# Altium schematic symbol library Schlib1_GuJun.SchLib: 15 symbols
Pins are listed as number, name and electrical type; pins without a type are passive.

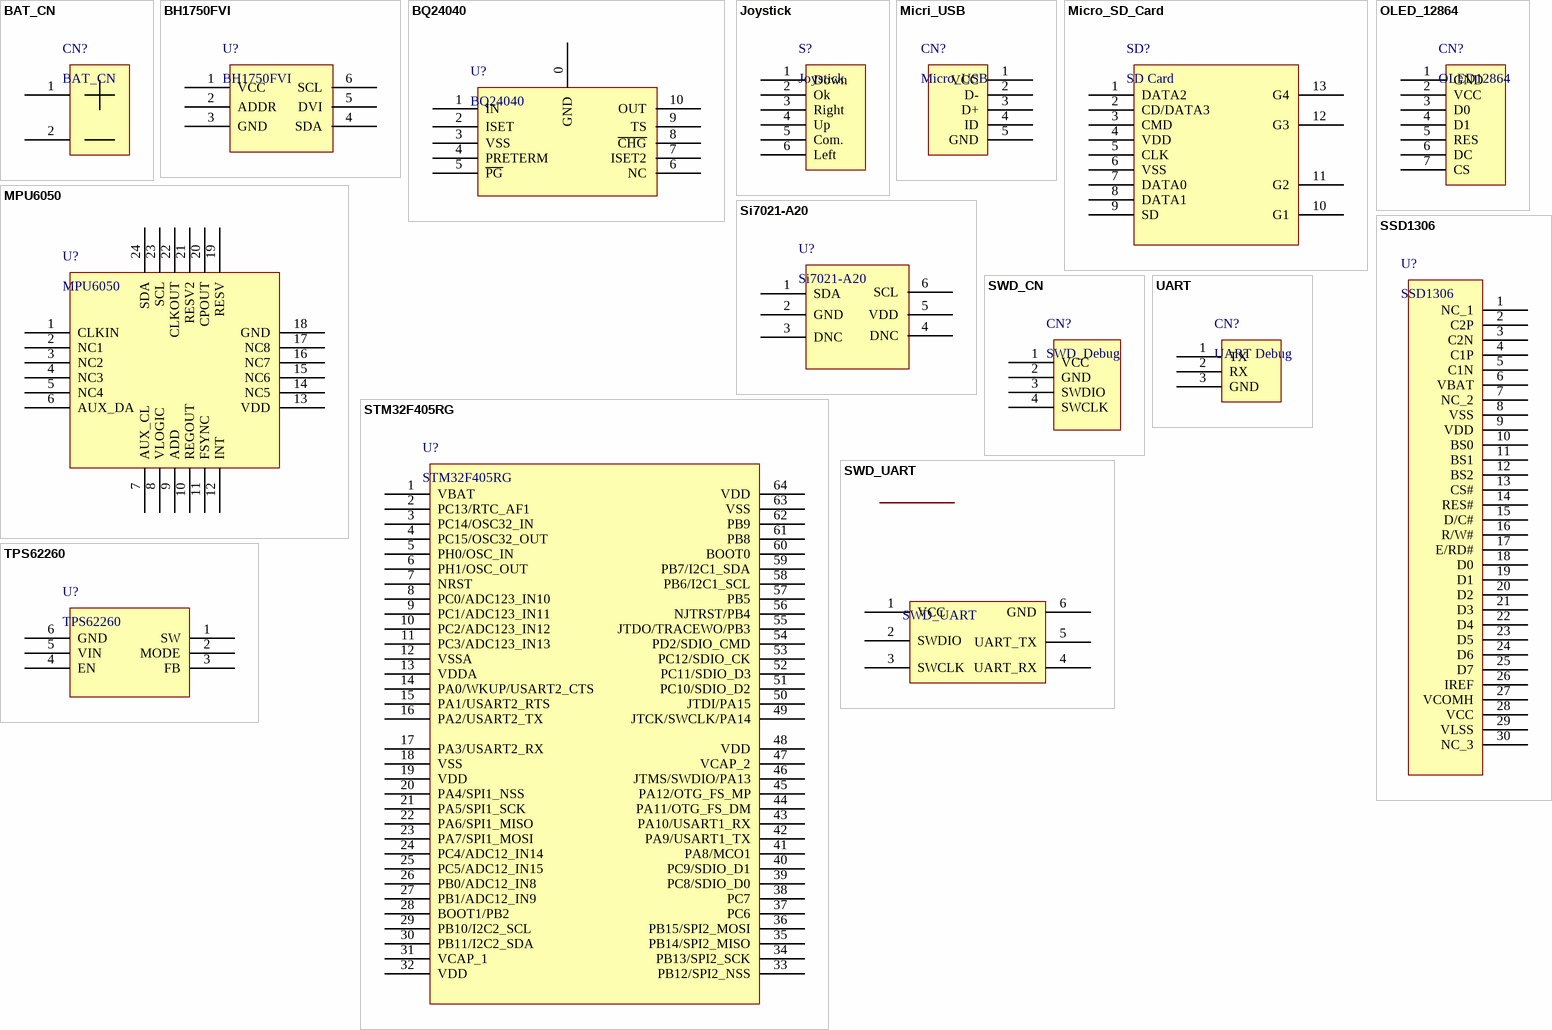
[diagram p0: symbols BAT_CN to UART]

## BAT_CN
designator CN?
pins: 1 +, 2 -

## BH1750FVI
designator U?
pins: 1 VCC, 2 ADDR, 3 GND, 4 SDA, 5 DVI, 6 SCL

## BQ24040
designator U?
pins: 0 GND, 1 IN, 2 ISET, 3 VSS, 4 PRETERM, 5 ~{PG}, 6 NC, 7 ISET2, 8 ~{CHG}, 9 TS, 10 OUT

## Joystick
designator S?
pins: 1 Down, 2 Ok, 3 Right, 4 Up, 5 Com., 6 Left

## Micri_USB
designator CN?, comment Micro_USB
pins: 1 VCC, 2 D-, 3 D+, 4 ID, 5 GND

## Micro_SD_Card
designator SD?, comment SD Card
SD card socket
pins: 1 DATA2, 2 CD/DATA3, 3 CMD, 4 VDD, 5 CLK, 6 VSS, 7 DATA0, 8 DATA1, 9 SD, 10 G1, 11 G2, 12 G3, 13 G4

## MPU6050
designator U?
pins: 1 CLKIN, 2 NC1, 3 NC2, 4 NC3, 5 NC4, 6 AUX_DA, 7 AUX_CL, 8 VLOGIC, 9 ADD, 10 REGOUT, 11 FSYNC, 12 INT, 13 VDD, 14 NC5, 15 NC6, 16 NC7, 17 NC8, 18 GND, 19 RESV, 20 CPOUT, 21 RESV2, 22 CLKOUT, 23 SCL, 24 SDA

## OLED_12864
designator CN?, comment OLED12864
pins: 1 GND, 2 VCC, 3 D0, 4 D1, 5 RES, 6 DC, 7 CS

## Si7021-A20
designator U?
pins: 1 SDA, 2 GND, 3 DNC, 4 DNC, 5 VDD, 6 SCL

## SSD1306
designator U?
pins: 1 NC_1, 2 C2P, 3 C2N, 4 C1P, 5 C1N, 6 VBAT, 7 NC_2, 8 VSS, 9 VDD, 10 BS0, 11 BS1, 12 BS2, 13 CS#, 14 RES#, 15 D/C#, 16 R/W#, 17 E/RD#, 18 D0, 19 D1, 20 D2, 21 D3, 22 D4, 23 D5, 24 D6, 25 D7, 26 IREF, 27 VCOMH, 28 VCC, 29 VLSS, 30 NC_3

## STM32F405RG
designator U?
pins: 1 VBAT, 2 PC13/RTC_AF1, 3 PC14/OSC32_IN, 4 PC15/OSC32_OUT, 5 PH0/OSC_IN, 6 PH1/OSC_OUT, 7 NRST, 8 PC0/ADC123_IN10, 9 PC1/ADC123_IN11, 10 PC2/ADC123_IN12, 11 PC3/ADC123_IN13, 12 VSSA, 13 VDDA, 14 PA0/WKUP/USART2_CTS, 15 PA1/USART2_RTS, 16 PA2/USART2_TX, 17 PA3/USART2_RX, 18 VSS, 19 VDD, 20 PA4/SPI1_NSS, 21 PA5/SPI1_SCK, 22 PA6/SPI1_MISO, 23 PA7/SPI1_MOSI, 24 PC4/ADC12_IN14, 25 PC5/ADC12_IN15, 26 PB0/ADC12_IN8, 27 PB1/ADC12_IN9, 28 BOOT1/PB2, 29 PB10/I2C2_SCL, 30 PB11/I2C2_SDA, 31 VCAP_1, 32 VDD, 33 PB12/SPI2_NSS, 34 PB13/SPI2_SCK, 35 PB14/SPI2_MISO, 36 PB15/SPI2_MOSI, 37 PC6, 38 PC7, 39 PC8/SDIO_D0, 40 PC9/SDIO_D1, 41 PA8/MCO1, 42 PA9/USART1_TX, 43 PA10/USART1_RX, 44 PA11/OTG_FS_DM, 45 PA12/OTG_FS_MP, 46 JTMS/SWDIO/PA13, 47 VCAP_2, 48 VDD, 49 JTCK/SWCLK/PA14, 50 JTDI/PA15, 51 PC10/SDIO_D2, 52 PC11/SDIO_D3, 53 PC12/SDIO_CK, 54 PD2/SDIO_CMD, 55 JTDO/TRACEWO/PB3, 56 NJTRST/PB4, 57 PB5, 58 PB6/I2C1_SCL, 59 PB7/I2C1_SDA, 60 BOOT0, 61 PB8, 62 PB9, 63 VSS, 64 VDD

## SWD_CN
designator CN?, comment SWD_Debug
SWD debug connector
pins: 1 VCC, 2 GND, 3 SWDIO, 4 SWCLK

## SWD_UART
designator SWD_UART
pins: 1 VCC, 2 SWDIO, 3 SWCLK, 4 UART_RX, 5 UART_TX, 6 GND

## TPS62260
designator U?
DC-DC buck
pins: 1 SW, 2 MODE, 3 FB, 4 EN, 5 VIN, 6 GND

## UART
designator CN?, comment UART Debug
pins: 1 TX, 2 RX, 3 GND